# Altium schematic symbol library SCH - DIODES - LED WHITE.SCHLIB: 1 symbol
Pins are listed as number, name and electrical type; pins without a type are passive.

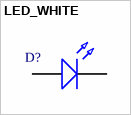
[diagram p0: symbol LED_WHITE]

## LED_WHITE
designator D?  (value not drawn)
Light Emitting Diodes (LED) ROHS White
pins: 1 K, 2 A